# EAGLE library part PTR5518 (library lio)
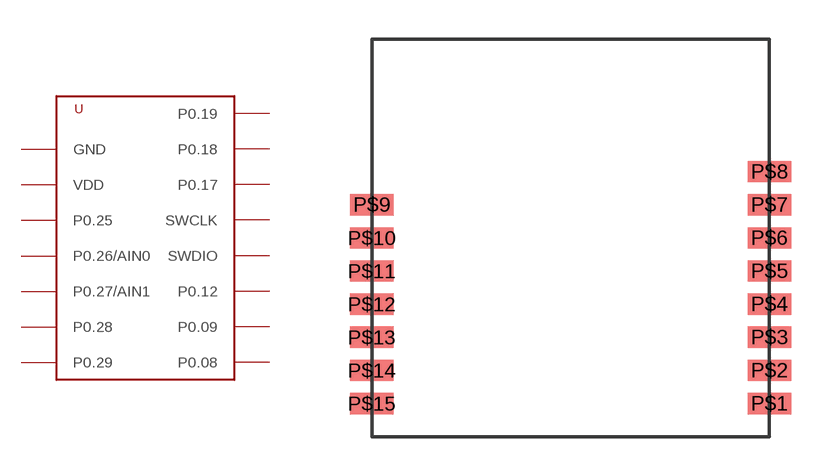
[diagram p17: symbol with the pads of PTR5518; footprint PTR5518]

Designator prefix -

## PTR5518  [PTR5518]
P$1  P0.08
P$2  P0.09
P$3  P0.12
P$4  SWDIO
P$5  SWCLK
P$6  P0.17
P$7  P0.18
P$8  P0.19
P$9  GND  pwr
P$10  VDD  pwr
P$11  P0.25
P$12  P0.26/AIN0
P$13  P0.27/AIN1
P$14  P0.28
P$15  P0.29

## Footprint PTR5518 (pad centres in mm)
smd 1.676 x 0.813: P$1 7.62,-6.35; P$2 7.62,-5.08; P$3 7.62,-3.81; P$4 7.62,-2.54; P$5 7.62,-1.27; P$6 7.62,0; P$7 7.62,1.27; P$8 7.62,2.54; P$9 -7.62,1.27; P$10 -7.62,0; P$11 -7.62,-1.27; P$12 -7.62,-2.54; P$13 -7.62,-3.81; P$14 -7.62,-5.08; P$15 -7.62,-6.35